# Altium footprint library CUI_CPI-2316-85T.PcbLib: 1 footprints
Each footprint in its own frame and in the unit in brackets; x right, y up, seen from the top. Pads: shape width x height; smd on the part's side, far side on the other; paste and mask are expansions set on the pad; w line width, h text height; cw(c..) or ccw(c..) is an arc to the next point about the centre after c.
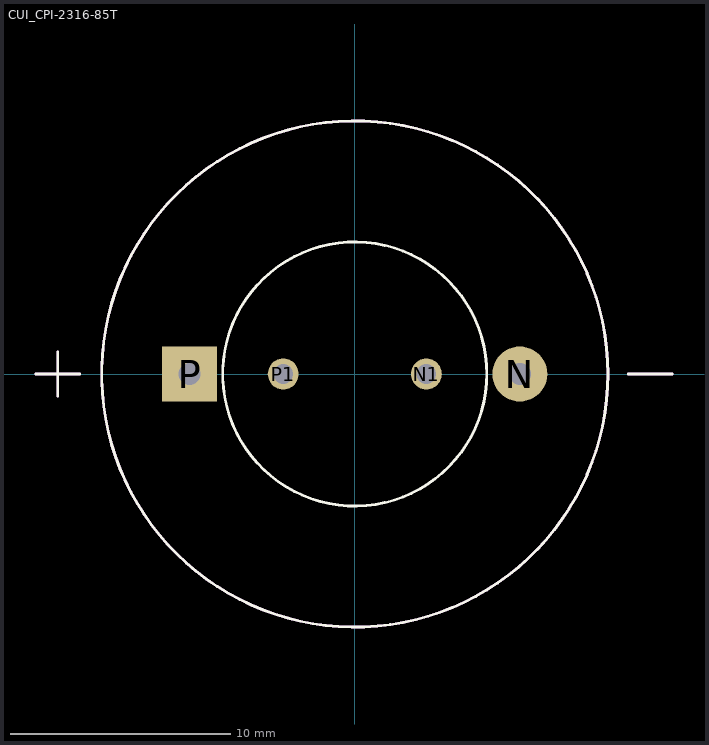
[diagram p0: the footprint, top view; thin cyan lines are the x and y axes]

## CUI_CPI-2316-85T [mm]
height 16
pads (4):
  round 2.5 hole 1: N(7.5,0)
  round 1.408 hole 0.9: N1(3.25,0) P1(-3.25,0)
  rect 2.5x2.5 / inner round 2.5 / far side rect 2.5x2.5 hole 1: P(-7.5,0)
Top Overlay:
  circle w0.127: c0,0 r6
  circle w0.127: c0,0 r11.5
  lines w0.127: -14.49,0 -12.49,0 ; -13.49,-1 -13.49,1 ; 12.42,0 14.42,0
Assembly Top:
  circle w0.127: c0,0 r11.5
  lines w0.127: -14.49,0 -12.49,0 ; -13.49,-1 -13.49,1 ; 12.42,0 14.42,0
3D body "step_temp.STEP": height 15.97, standoff -6.02, extent -11.443,-11.5 11.557,11.5